# Altium footprint library Paradax.PcbLib: 1 footprints
Each footprint in its own frame and in the unit in brackets; x right, y up, seen from the top. Pads: shape width x height; smd on the part's side, far side on the other; paste and mask are expansions set on the pad; w line width, h text height; cw(c..) or ccw(c..) is an arc to the next point about the centre after c.
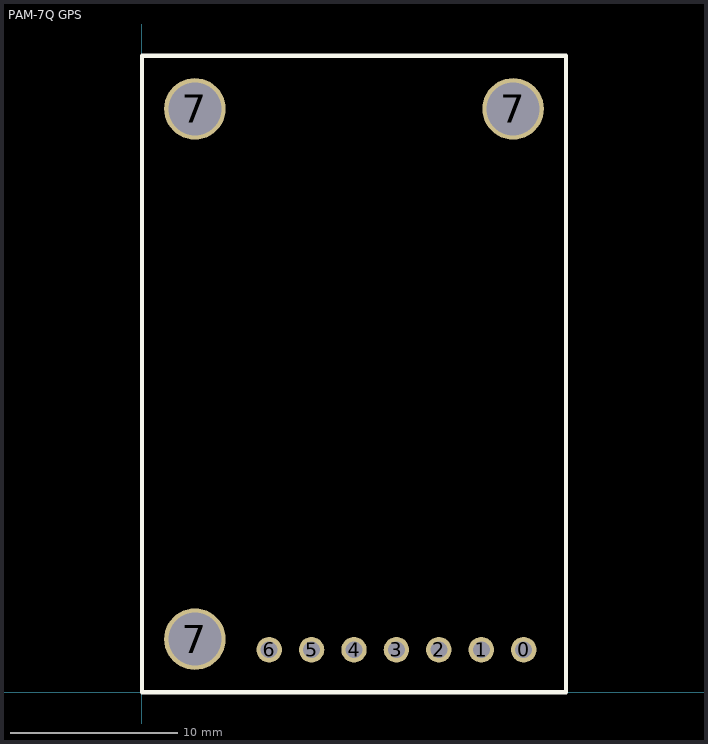
[diagram p0: the footprint, top view; thin cyan lines are the x and y axes]

## PAM-7Q GPS [mil]
pads (10):
  round 60 hole 40: 0(900,100) 1(800,100) 2(700,100) 3(600,100) 4(500,100) 5(400,100) 6(300,100)
  round 145 hole 125: 7(125,125) 7(125,1375) 7(875,1375)
Top Overlay:
  lines w10: 0,0 35,0 370,0 1000,0 1000,1455 1000,1500 0,1500 0,1490 0,0